# EAGLE library part MOUDLE-WIFI-HE50(50P-43.7X25.9X4MM) (library Seeed-OPL-Moudle)
317060007
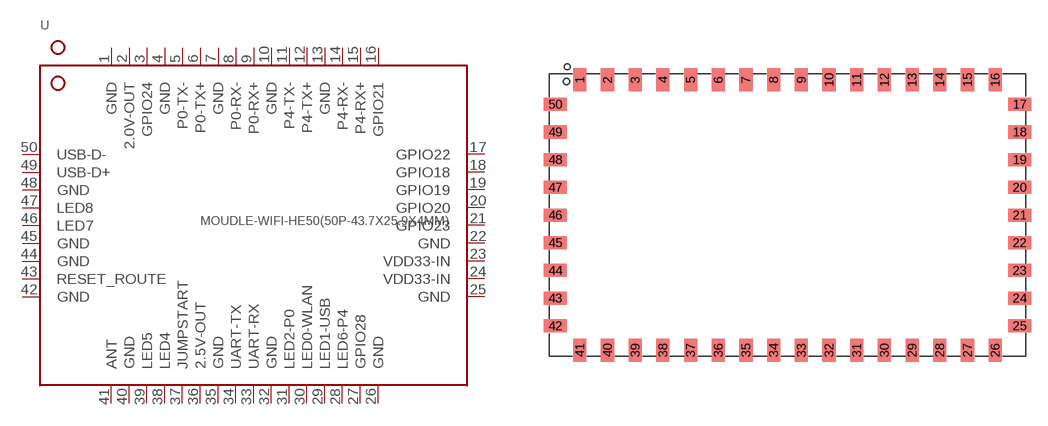
[diagram p15: symbol with the pads of LGA50-2.54-43.7X25.9X4MM; footprint LGA50-2.54-43.7X25.9X4MM]

Designator prefix U

## MOUDLE-WIFI-HE50(50P-43.7X25.9X4MM) (MPN: HE50; VALUE: HE50)  [LGA50-2.54-43.7X25.9X4MM]
1  GND  sup
2  2.0V-OUT
3  GPIO24
4  GND  sup
5  P0-TX-
6  P0-TX+
7  GND  sup
8  P0-RX-
9  P0-RX+
10  GND  sup
11  P4-TX-
12  P4-TX+
13  GND
14  P4-RX-
15  P4-RX+
16  GPIO21
17  GPIO22
18  GPIO18
19  GPIO19
20  GPIO20
21  GPIO23
22  GND  sup
23  VDD33-IN  pwr
24  VDD33-IN  pwr
25  GND  sup
26  GND  sup
27  GPIO28
28  LED6-P4
29  LED1-USB
30  LED0-WLAN
31  LED2-P0
32  GND  sup
33  UART-RX
34  UART-TX
35  GND  sup
36  2.5V-OUT  pwr
37  JUMPSTART
38  LED4
39  LED5
40  GND  sup
41  ANT
42  GND  sup
43  RESET_ROUTE
44  GND  sup
45  GND  sup
46  LED7
47  LED8
48  GND  sup
49  USB-D+
50  USB-D-

## Footprint LGA50-2.54-43.7X25.9X4MM (pad centres in mm)
smd 1.2 x 2.1: 1 -19.05,12.4; 2 -16.51,12.4; 3 -13.97,12.4; 4 -11.43,12.4; 5 -8.89,12.4; 6 -6.35,12.4; 7 -3.81,12.4; 8 -1.27,12.4; 9 1.27,12.4; 10 3.81,12.4; 11 6.35,12.4; 12 8.89,12.4; 13 11.43,12.4; 14 13.97,12.4; 15 16.51,12.4; 16 19.05,12.4; 26 19.05,-12.4; 27 16.51,-12.4; 28 13.97,-12.4; 29 11.43,-12.4; 30 8.89,-12.4; 31 6.35,-12.4; 32 3.81,-12.4; 33 1.27,-12.4; 34 -1.27,-12.4; 35 -3.81,-12.4; 36 -6.35,-12.4; 37 -8.89,-12.4; 38 -11.43,-12.4; 39 -13.97,-12.4; 40 -16.51,-12.4; 41 -19.05,-12.4
smd 2.1 x 1.2: 17 21.3,10.16; 18 21.3,7.62; 19 21.3,5.08; 20 21.3,2.54; 21 21.3,0; 22 21.3,-2.54; 23 21.3,-5.08; 24 21.3,-7.62; 25 21.3,-10.16; 42 -21.3,-10.16; 43 -21.3,-7.62; 44 -21.3,-5.08; 45 -21.3,-2.54; 46 -21.3,0; 47 -21.3,2.54; 48 -21.3,5.08; 49 -21.3,7.62; 50 -21.3,10.16